# Altium footprint library PcbLib1.PcbLib: 1 footprints
Each footprint in its own frame and in the unit in brackets; x right, y up, seen from the top. Pads: shape width x height; smd on the part's side, far side on the other; paste and mask are expansions set on the pad; w line width, h text height; cw(c..) or ccw(c..) is an arc to the next point about the centre after c.
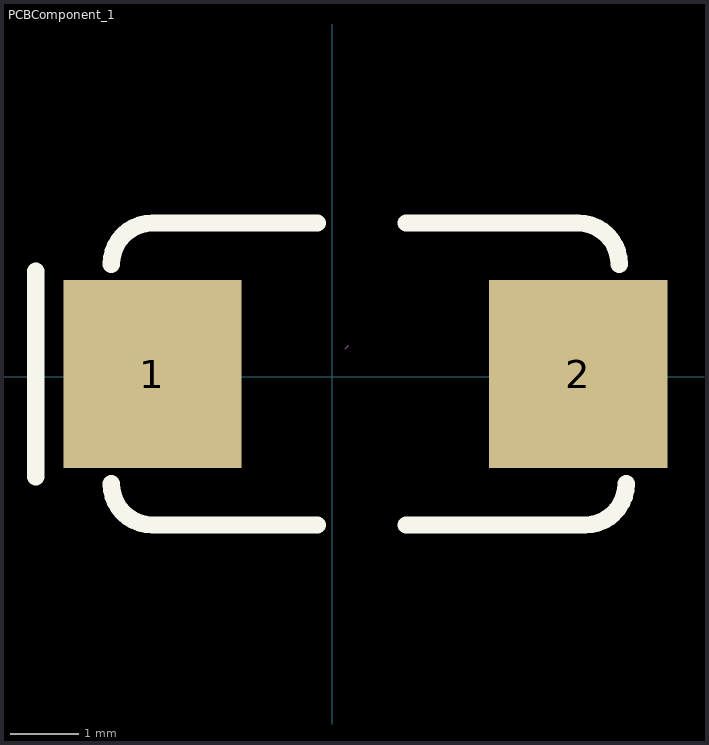
[diagram p0: the footprint, top view; thin cyan lines are the x and y axes]

## PCBComponent_1 [mm]
pads (2):
  rect 2.6x2.743 smd: 1(-2.618,0.041) 2(3.582,0.041)
Top Overlay:
  lines w0.254: -4.318,-1.459 -4.318,1.541 ; -3.218,-1.559 ccw(c-2.618,-1.559) -2.618,-2.159 -0.218,-2.159 ; -3.218,1.641 cw(c-2.618,1.641) -2.618,2.241 -0.218,2.241 ; 1.082,-2.159 3.682,-2.159 ccw(c3.682,-1.559) 4.282,-1.559 ; 1.082,2.241 3.582,2.241 cw(c3.582,1.641) 4.182,1.641
Mechanical 15:
  lines w0.003: 0.193,0.408 0.244,0.459